# EAGLE library part TLC59282 (library TASLink)
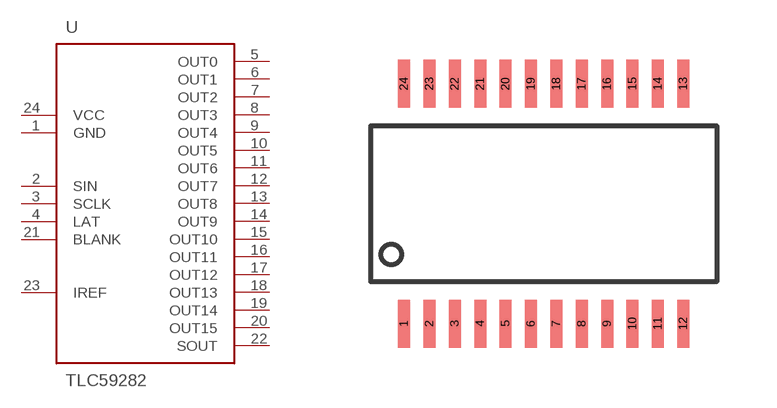
[diagram p4: symbol with the pads of R-PDSO-G24; footprint R-PDSO-G24]

Designator prefix U

## TLC59282  [R-PDSO-G24]
1  GND  in
2  SIN  in
3  SCLK  in
4  LAT  in
5  OUT0  in
6  OUT1  in
7  OUT2  in
8  OUT3  in
9  OUT4  in
10  OUT5  in
11  OUT6  in
12  OUT7  in
13  OUT8  in
14  OUT9  in
15  OUT10  in
16  OUT11  in
17  OUT12  in
18  OUT13  in
19  OUT14  in
20  OUT15  in
21  BLANK  in
22  SOUT  in
23  IREF  in
24  VCC  in

## Footprint R-PDSO-G24 (pad centres in mm)
smd 0.3 x 1.2: 1 -3.493,-3; 2 -2.857,-3; 3 -2.223,-3; 4 -1.587,-3; 5 -0.953,-3; 6 -0.318,-3; 7 0.318,-3; 8 0.953,-3; 9 1.587,-3; 10 2.223,-3; 11 2.857,-3; 12 3.493,-3; 13 3.493,3; 14 2.857,3; 15 2.223,3; 16 1.587,3; 17 0.953,3; 18 0.318,3; 19 -0.318,3; 20 -0.953,3; 21 -1.587,3; 22 -2.223,3; 23 -2.857,3; 24 -3.493,3